# Altium schematic symbol library Displays.SchLib: 6 symbols
Pins are listed as number, name and electrical type; pins without a type are passive.

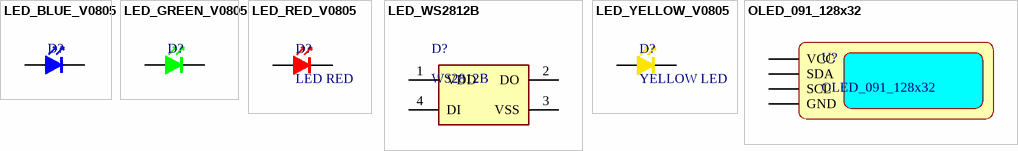
[diagram p0: symbols LED_BLUE_V0805 to OLED_091_128x32]

## LED_BLUE_V0805
designator D?, comment BLUE LED  (value not drawn)
20mA 615nm~630nm BLUE; JLCPCB Part: ?; LCSC Part: ?; Mrf. Part: ?
footprint LED_BLUE_V0805
pins: A 2, C 1

## LED_GREEN_V0805
designator D?, comment GREEN LED  (value not drawn)
20mA 615nm~630nm GREEN; JLCPCB Part: ?; LCSC Part: ?; Mrf. Part: ?
footprint LED_GREEN_V0805
pins: A 2, C 1

## LED_RED_V0805
designator D?, comment LED RED
20mA 615nm~630nm RED; JLCPCB Part: ?; LCSC Part: ?; Mrf. Part: ?
footprint LED_RED_V0805
pins: A 2, C 1

## LED_WS2812B
designator D?, comment WS2812B
SMD5050 RGB LEDs(Built-in IC) ROHS; LCSC Part: ?; Mrf. Part: ?; JLCPCB Part: ?
footprint LED_WS2812B
pins: 1 VDD, 2 DO, 3 VSS, 4 DI

## LED_YELLOW_V0805
designator D?, comment YELLOW LED
20mA 615nm~630nm YELLOW; JLCPCB Part: ?; LCSC Part: ?; Mrf. Part: ?
footprint LED_YELLOW_V0805
pins: A 2, C 1

## OLED_091_128x32
designator U?
0.91inch OLED Display Module, 128x32 Pixels, I2C Interface; Mrf. Part: ?; LCSC Part: ?; JLCPCB Part: ?
footprint OLED_091_128x32
pins: 1 SDA, 2 SCL, 3 VCC, 4 GND